# Altium schematic symbol library SCH_Lib.SchLib: 4 symbols
Pins are listed as number, name and electrical type; pins without a type are passive.

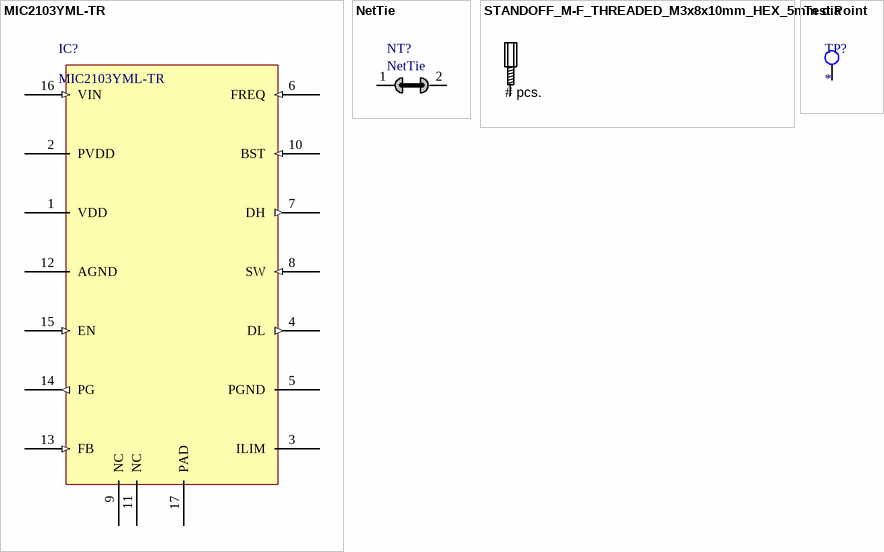
[diagram p0: symbols MIC2103YML-TR to Test Point]

## MIC2103YML-TR
designator IC?
Buck Regulator Positive Output Step-Down DC-DC Controller IC 16-MLF® (3x3); Vendor: Microchip; Built_By: EMA_Jessica; SourceLibrary: Microchip_2019-08-23_2; Manufacturer_Part_Number: MIC2103YML-TR; Copyright: Copyright (C) 2018 Accelerated Designs. All rights reserved; RefDes: RefDes; Type: DEV
footprint MLF-16_ML_4X4_00
pins: 1 VDD (power), 2 PVDD (power), 3 ILIM, 4 DL (out), 5 PGND (power), 6 FREQ (in), 7 DH (out), 8 SW (in), 9 NC, 10 BST (in), 11 NC, 12 AGND (power), 13 FB (in), 14 PG (out), 15 EN (in), 16 VIN (in), 17 PAD

## NetTie
designator NT?  (net tie, no BOM)
footprint NetTie_Narrow2
pins: 1, 2

## STANDOFF_M-F_THREADED_M3x8x10mm_HEX_5mm dia
designator MECH?, comment # pcs.
STANDOFF M/F MET 5MM HEX 10MM L; Manufacturer 1: Keystone Electronics; Manufacturer Part Number 1: 24313; Thread/Screw/Hole Size: M3 Thread; Plating: Nickel; Between Board Height: 0.394" (10.0mm); SCDType: undef; RoHS: RoHS Compliant; Description 1: STANDOFF M/F MET 5MM HEX 10MM L; Category: Hardware Fasteners Accessories; Stock 1: 240; Pricing 1: 10=0.969, 100=0.881, 500=0.58, 1000=0.3685, 2500=0.34215 (USD); Type: Hex Threaded, Male/Female; Size: 0.197" (5.0mm) Hex; Length - Overall: 0.709" (18.0mm); Material: Brass; Color: Natural; ComponentLink1URL: http://www.keyelco.com/pdfs/M55p67.pdf; ComponentLink1Description: http://www.keyelco.com/pdfs/M55p67.pdf; Supplier 1: Digi-Key; Supplier Part Number 1: 24313K-ND
footprint PCB_standoff
pins: MH1

## Test Point
designator TP?  (no BOM)
footprint TestPoint-1.5mm
pins: 1 TP